# Altium footprint library PcbLib1.PcbLib: 85 footprints (part 2 of 6)
Each footprint in its own frame and in the unit in brackets; x right, y up, seen from the top. Pads: shape width x height; smd on the part's side, far side on the other; paste and mask are expansions set on the pad; w line width, h text height; cw(c..) or ccw(c..) is an arc to the next point about the centre after c.
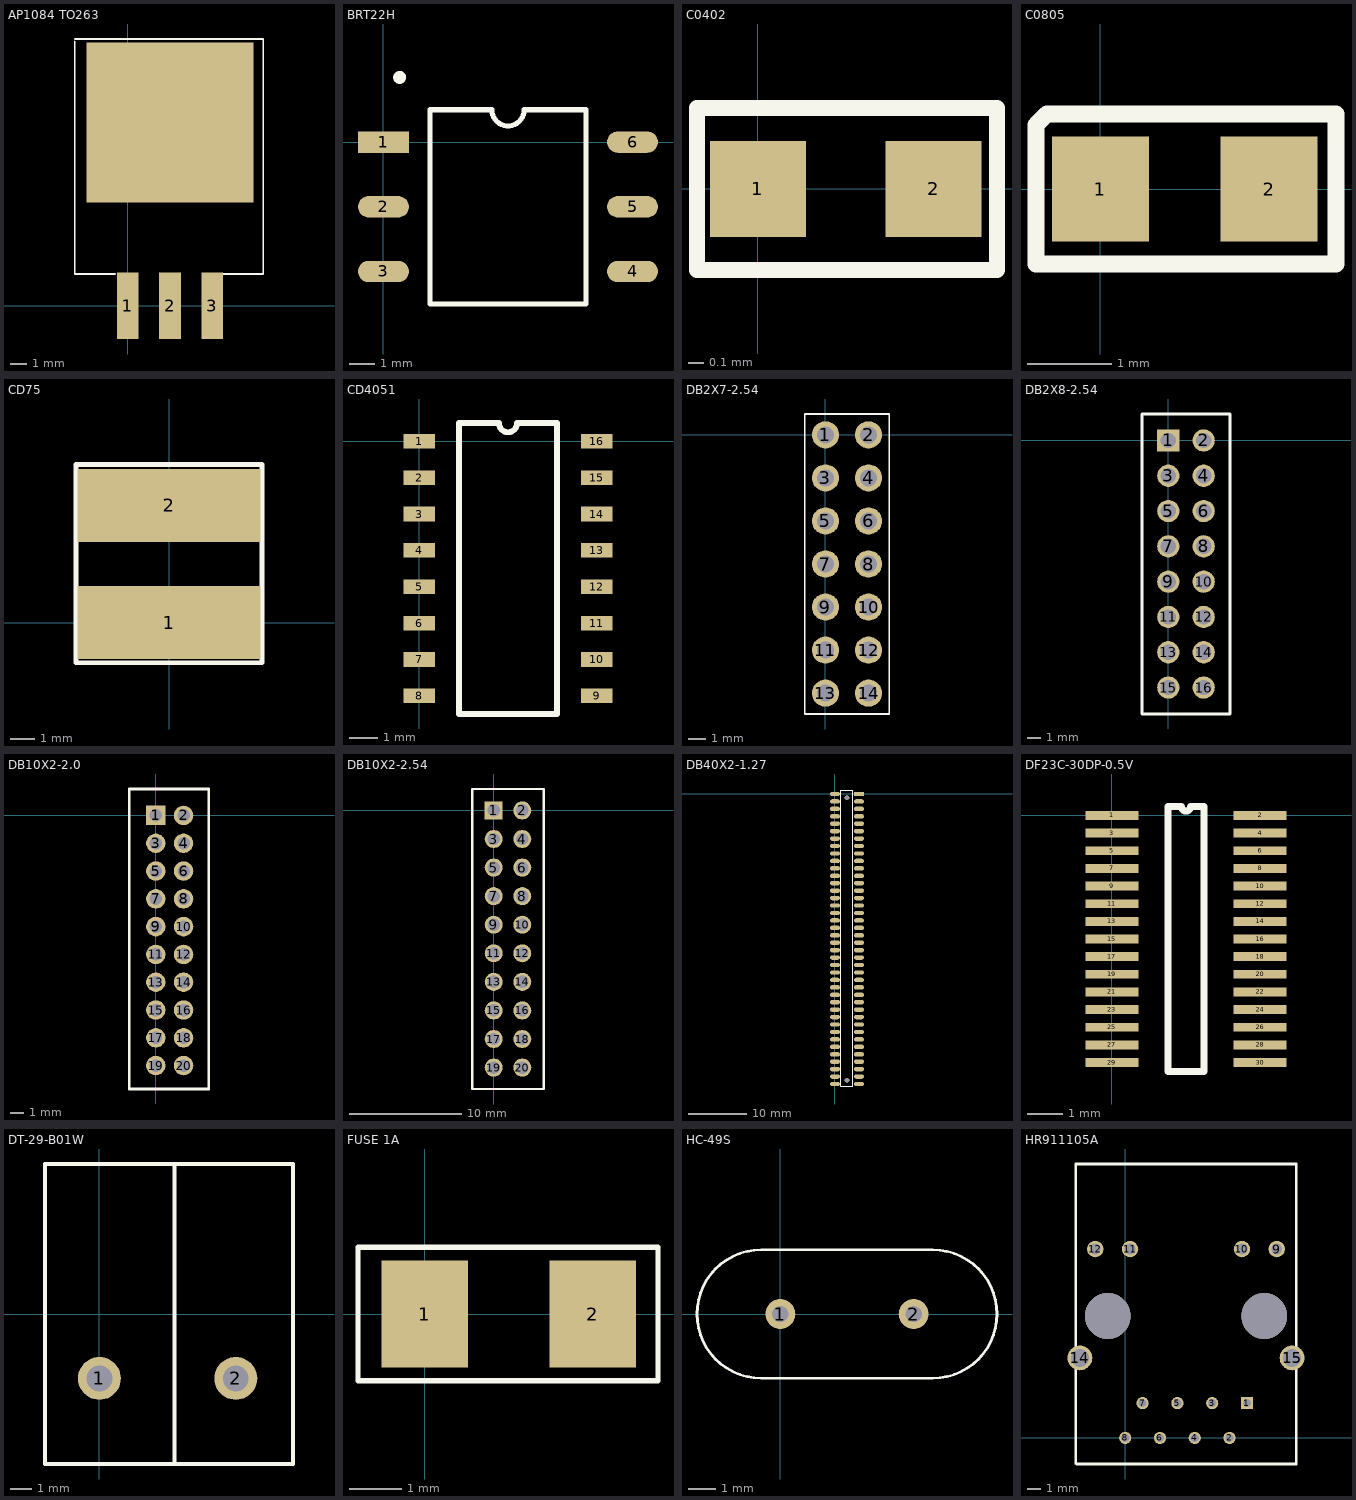
[diagram p1: the footprints below, top view; thin cyan lines are the x and y axes]

## AP1084 TO263 [mm]
pads (4):
  rect 1.3x4 smd: 1(0,0) 2(2.54,0) 3(5.08,0)
  rect 10x9.6 smd: ""(2.54,11)
Top Overlay:
  lines w0.1: -3.175,15.875 -3.175,1.905 -0.762,1.905 ; -3.175,16.002 8.128,16.002 8.128,1.905 5.715,1.905

## BRT22H [mm]
pads (6):
  rect 2x0.84 smd: 1(0,0)
  oval 2x0.84 smd: 2(0,-2.54) 3(0,-5.08) 4(9.78,-5.08) 5(9.78,-2.54) 6(9.78,0)
Top Overlay:
  circle w0.254: c0.635,2.54 r0.127
  lines w0.2: 1.835,-6.35 1.835,1.27 4.255,1.27 ccw(c4.89,1.27) 5.525,1.27 7.945,1.27 7.945,-6.35 1.835,-6.35

## C0402 [mm]
pads (2):
  rect 0.6x0.6 smd: 1(0,0) 2(1.1,0)
Top Overlay:
  lines w0.1: -0.381,-0.508 1.497,-0.508 1.497,0.508 -0.381,0.508 -0.381,-0.508

## C0805 [mm]
pads (2):
  rect 1.15x1.25 smd: 1(0,0) 2(2,0)
Top Overlay:
  lines w0.2: -0.762,-0.889 2.794,-0.889 2.794,0.889 -0.635,0.889 -0.762,0.762 -0.762,-0.889

## CD75 [mm]
pads (2):
  rect 7.5x3 smd: 1(0,0) 2(0,4.8)
Top Overlay:
  lines w0.2: -3.81,-1.651 3.81,-1.651 3.81,1.524 3.81,3.175 3.81,6.477 -3.81,6.477 -3.81,3.175 -3.81,1.524 -3.81,-1.651

## CD4051 [mm]
pads (16):
  rect 1.1x0.51 smd: 1(0,0) 2(0,-1.27) 3(0,-2.54) 4(0,-3.81) 5(0,-5.08) 6(0,-6.35) 7(0,-7.62) 8(0,-8.89) 9(6.2,-8.89) 10(6.2,-7.62) 11(6.2,-6.35) 12(6.2,-5.08) 13(6.2,-3.81) 14(6.2,-2.54) 15(6.2,-1.27) 16(6.2,0)
Top Overlay:
  lines w0.2: 1.385,-9.525 4.815,-9.525 4.815,0.635 3.417,0.635 cw(c3.1,0.635) 2.782,0.635 1.385,0.635 1.385,-9.525

## DB2X7-2.54 [mm]
pads (14):
  round 1.6 hole 1: 1(0,0) 2(2.54,0) 3(0,-2.54) 4(2.54,-2.54) 5(0,-5.08) 6(2.54,-5.08) 7(0,-7.62) 8(2.54,-7.62) 9(0,-10.16) 10(2.54,-10.16) 11(0,-12.7) 12(2.54,-12.7) 13(0,-15.24) 14(2.54,-15.24)
Top Overlay:
  lines w0.1: -1.23,-16.47 -1.23,1.23 3.77,1.23 3.77,-16.47 -1.23,-16.47

## DB2X8-2.54 [mm]
pads (16):
  rect 1.6x1.6 hole 1.1: 1(0,0)
  round 1.6 hole 1.1: 2(2.54,0) 3(0,-2.54) 4(2.54,-2.54) 5(0,-5.08) 6(2.54,-5.08) 7(0,-7.62) 8(2.54,-7.62) 9(0,-10.16) 10(2.54,-10.16) 11(0,-12.7) 12(2.54,-12.7) 13(0,-15.24) 14(2.54,-15.24) 15(0,-17.78) 16(2.54,-17.78)
Top Overlay:
  lines w0.2: -1.905,-19.685 -1.905,1.905 4.445,1.905 4.445,-19.685 -1.905,-19.685

## DB10X2-2.0 [mm]
pads (20):
  rect 1.4x1.4 hole 0.9: 1(0,0)
  round 1.4 hole 0.9: 2(2,0) 3(0,-2) 4(2,-2) 5(0,-4) 6(2,-4) 7(0,-6) 8(2,-6) 9(0,-8) 10(2,-8) 11(0,-10) 12(2,-10) 13(0,-12) 14(2,-12) 15(0,-14) 16(2,-14) 17(0,-16) 18(2,-16) 19(0,-18) 20(2,-18)
Top Overlay:
  lines w0.2: -1.905,-19.685 -1.905,1.905 3.81,1.905 3.81,-19.685 -1.905,-19.685

## DB10X2-2.54 [mm]
pads (20):
  rect 1.6x1.6 hole 1.1: 1(0,0)
  round 1.6 hole 1.1: 2(2.54,0) 3(0,-2.54) 4(2.54,-2.54) 5(0,-5.08) 6(2.54,-5.08) 7(0,-7.62) 8(2.54,-7.62) 9(0,-10.16) 10(2.54,-10.16) 11(0,-12.7) 12(2.54,-12.7) 13(0,-15.24) 14(2.54,-15.24) 15(0,-17.78) 16(2.54,-17.78) 17(0,-20.32) 18(2.54,-20.32) 19(0,-22.86) 20(2.54,-22.86)
Top Overlay:
  lines w0.2: -1.905,-24.765 4.445,-24.765 4.445,1.905 -1.905,1.905 -1.905,-24.765

## DB40X2-1.27 [mm]
pads (80):
  rect 1.7x0.74 smd: 1(4.1,0)
  oval 1.7x0.74 smd: 2(0,0) 3(4.1,-1.27) 4(0,-1.27) 5(4.1,-2.54) 6(0,-2.54) 7(4.1,-3.81) 8(0,-3.81) 9(4.1,-5.08) 10(0,-5.08) 11(4.1,-6.35) 12(0,-6.35) 13(4.1,-7.62) 14(0,-7.62) 15(4.1,-8.89) 16(0,-8.89) 17(4.1,-10.16) 18(0,-10.16) 19(4.1,-11.43) 20(0,-11.43) 21(4.1,-12.7) 22(0,-12.7) 23(4.1,-13.97) 24(0,-13.97) 25(4.1,-15.24) 26(0,-15.24) 27(4.1,-16.51) 28(0,-16.51) 29(4.1,-17.78) 30(0,-17.78) 31(4.1,-19.05) 32(0,-19.05) 33(4.1,-20.32) 34(0,-20.32) 35(4.1,-21.59) 36(0,-21.59) 37(4.1,-22.86) 38(0,-22.86) 39(4.1,-24.13) 40(0,-24.13) 41(4.1,-25.4) 42(0,-25.4) 43(4.1,-26.67) 44(0,-26.67) 45(4.1,-27.94) 46(0,-27.94) 47(4.1,-29.21) 48(0,-29.21) 49(4.1,-30.48) 50(0,-30.48) 51(4.1,-31.75) 52(0,-31.75) 53(4.1,-33.02) 54(0,-33.02) 55(4.1,-34.29) 56(0,-34.29) 57(4.1,-35.56) 58(0,-35.56) 59(4.1,-36.83) 60(0,-36.83) 61(4.1,-38.1) 62(0,-38.1) 63(4.1,-39.37) 64(0,-39.37) 65(4.1,-40.64) 66(0,-40.64) 67(4.1,-41.91) 68(0,-41.91) 69(4.1,-43.18) 70(0,-43.18) 71(4.1,-44.45) 72(0,-44.45) 73(4.1,-45.72) 74(0,-45.72) 75(4.1,-46.99) 76(0,-46.99) 77(4.1,-48.26) 78(0,-48.26) 79(4.1,-49.53) 80(0,-49.53)
via 2.05,-0.635 diameter 0.8 hole 0.8
via 2.05,-48.895 diameter 0.8 hole 0.8
Top Overlay:
  lines w0.1: 1.016,-49.911 1.016,0.635 3.048,0.635 3.048,-49.911 1.016,-49.911

## DF23C-30DP-0.5V [mm]
pads (30):
  rect 1.5x0.25 smd: 1(0,0) 2(4.2,0) 3(0,-0.5) 4(4.2,-0.5) 5(0,-1) 6(4.2,-1) 7(0,-1.5) 8(4.2,-1.5) 9(0,-2) 10(4.2,-2) 11(0,-2.5) 12(4.2,-2.5) 13(0,-3) 14(4.2,-3) 15(0,-3.5) 16(4.2,-3.5) 17(0,-4) 18(4.2,-4) 19(0,-4.5) 20(4.2,-4.5) 21(0,-5) 22(4.2,-5) 23(0,-5.5) 24(4.2,-5.5) 25(0,-6) 26(4.2,-6) 27(0,-6.5) 28(4.2,-6.5) 29(0,-7) 30(4.2,-7)
Top Overlay:
  lines w0.2: 1.585,-7.25 1.585,0.25 1.975,0.25 ccw(c2.1,0.25) 2.225,0.25 2.615,0.25 2.615,-7.25 1.585,-7.25

## DT-29-B01W [mm]
pads (2):
  round 2 hole 1.2: 1(0,-3) 2(6.35,-3)
Top Overlay:
  lines w0.2: 3.492,-6.985 3.492,6.985 ; -2.54,-6.985 -2.54,0 -2.54,6.985 9.017,6.985 9.017,-6.985 -2.54,-6.985

## FUSE 1A [mm]
pads (2):
  rect 1.65x2.03 smd: 1(0,0) 2(3.2,0)
Top Overlay:
  lines w0.1: -1.27,-1.27 -1.27,1.27 4.445,1.27 4.445,-1.27 -1.27,-1.27

## HC-49S [mm]
pads (2):
  round 1.1 hole 0.6: 1(0,0) 2(4.88,0)
Top Overlay:
  lines w0.1: -0.7,-2.35 cw(c-0.7,0) -0.7,2.35 0,2.35 4.88,2.35 5.58,2.35 cw(c5.58,0) 5.58,-2.35 4.88,-2.35 0,-2.35 -0.7,-2.35

## HR911105A [mm]
pads (14):
  rect 0.89x0.89 hole 0.6: 1(8.89,2.54)
  round 0.89 hole 0.6: 2(7.62,0) 3(6.35,2.54) 4(5.08,0) 5(3.81,2.54) 6(2.54,0) 7(1.27,2.54) 8(0,0)
  round 1.2 hole 0.8: 9(11.065,13.79) 10(8.525,13.79) 11(0.355,13.79) 12(-2.185,13.79)
  round 1.8 hole 1.3: 14(-3.305,5.84) 15(12.185,5.84)
via -1.275,8.89 diameter 3.35 hole 3.35
via 10.155,8.89 diameter 3.35 hole 3.35
Top Overlay:
  lines w0.2: -3.61,-1.851 -3.61,6.804 -3.61,15.24 -3.61,20 12.49,20 12.49,15.24 12.49,-1.905 -3.556,-1.905 -3.61,-1.851